# EAGLE library part MPL3115A2 (library seb)
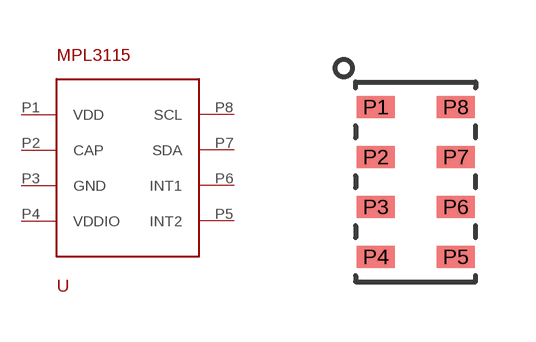
[diagram p19: symbol with the pads of LGA8; footprint LGA8]

Designator prefix -

## MPL3115A2  [LGA8]
P1  VDD
P2  CAP
P3  GND
P4  VDDIO
P5  INT2
P6  INT1
P7  SDA
P8  SCL

## Footprint LGA8 (pad centres in mm)
smd 0.95 x 0.55: P1 -1,1.875; P2 -1,0.625; P3 -1,-0.625; P4 -1,-1.875; P5 1,-1.875; P6 1,-0.625; P7 1,0.625; P8 1,1.875